# Altium schematic symbol library UMW78L05.SCHLIB: 1 symbol
Pins are listed as number, name and electrical type; pins without a type are passive.

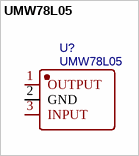
[diagram p0: symbol UMW78L05]

## UMW78L05
designator U?
BOM_Manufacturer: Youtai Semiconductor Co., Ltd.; Contributor: LCSC; BOM_Supplier: LCSC; BOM_Supplier Part: C347258; BOM_Manufacturer Part: UMW78L05; BOM_JLCPCB Part Class: Extended Part; spicePre: U; spiceSymbolName: UMW78L05
footprint SOT-89-3_L4.5-W2.5-P1.50-LS4.2-BR
pins: 1 OUTPUT, 2 GND, 3 INPUT